# EAGLE library part PCM1773 (library PCM1773)
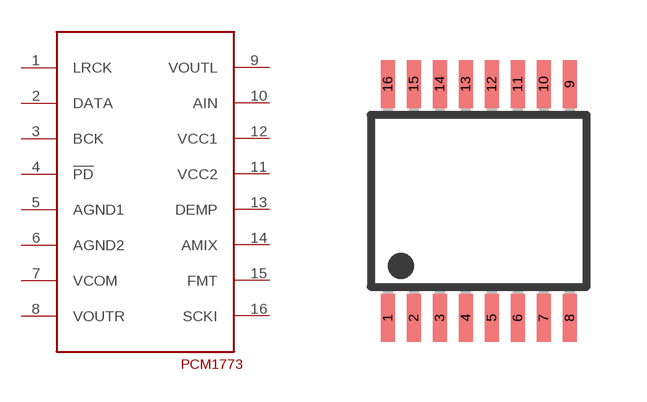
[diagram p0: symbol with the pads of TSSOP16; footprint TSSOP16]

Designator prefix -

## PCM1773  [TSSOP16]
1  LRCK
2  DATA
3  BCK
4  !PD
5  AGND1  pwr
6  AGND2  pwr
7  VCOM  pwr
8  VOUTR
9  VOUTL
10  AIN
11  VCC2  pwr
12  VCC1  pwr
13  DEMP
14  AMIX
15  FMT
16  SCKI

## Footprint TSSOP16 (pad centres in mm)
PW (R-PDSO-G8) Source: http://focus.ti.com/lit/ds/symlink/ads1271.pdf
smd 0.35 x 1.2: 1 -2.275,-2.925; 2 -1.625,-2.925; 3 -0.975,-2.925; 4 -0.325,-2.925; 5 0.325,-2.925; 6 0.975,-2.925; 7 1.625,-2.925; 8 2.275,-2.925; 9 2.275,2.925; 10 1.625,2.925; 11 0.975,2.925; 12 0.325,2.925; 13 -0.325,2.925; 14 -0.975,2.925; 15 -1.625,2.925; 16 -2.275,2.925